# Altium footprint library Analog Devices Footprints.PcbLib: 248 footprints (part 12 of 16)
Each footprint in its own frame and in the unit in brackets; x right, y up, seen from the top. Pads: shape width x height; smd on the part's side, far side on the other; paste and mask are expansions set on the pad; w line width, h text height; cw(c..) or ccw(c..) is an arc to the next point about the centre after c.
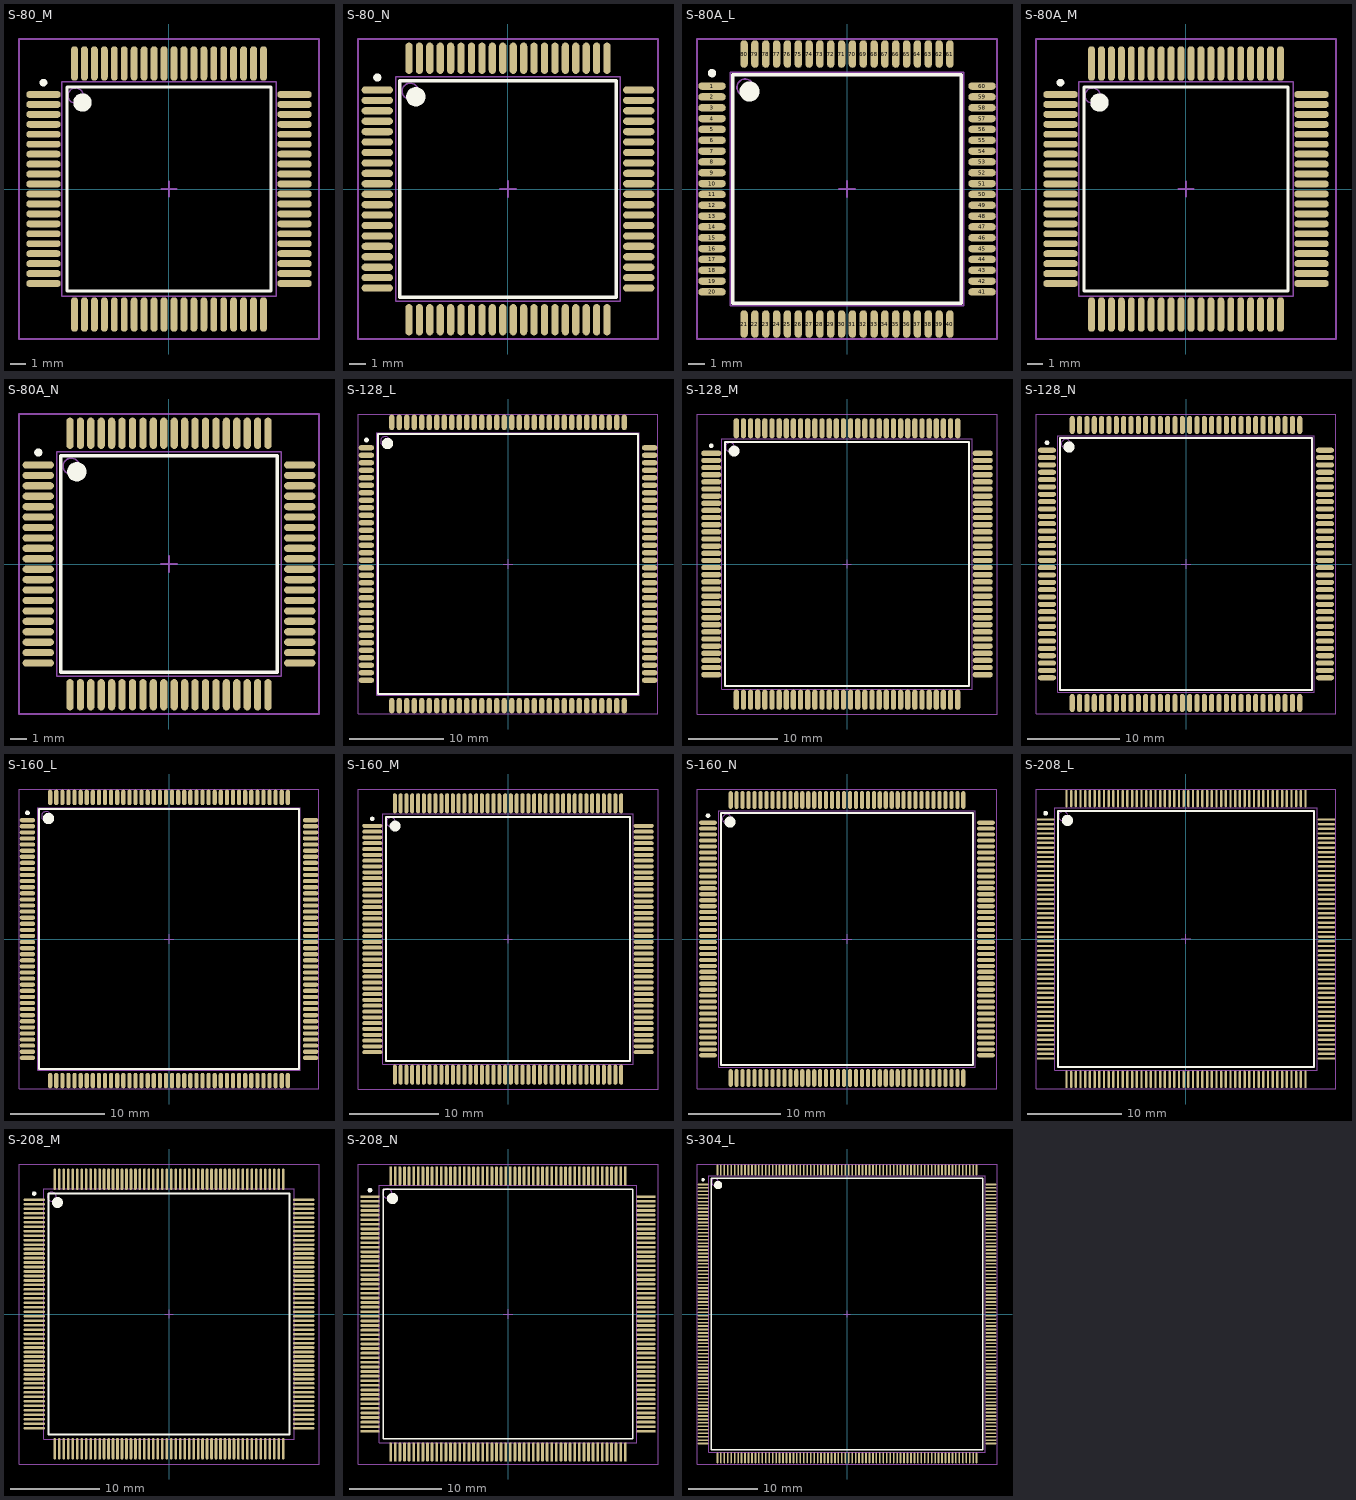
[diagram p11: the footprints below, top view; thin cyan lines are the x and y axes]

## S-80_M [mm] "80-Pin Quad Flat Pack 0.65 mm Pitch, IPC Low Density"
height 2.45
pads (80):
  oval 2.25x0.45 smd: 1(-8.2,6.175) 2(-8.2,5.525) 3(-8.2,4.875) 4(-8.2,4.225) 5(-8.2,3.575) 6(-8.2,2.925) 7(-8.2,2.275) 8(-8.2,1.625) 9(-8.2,0.975) 10(-8.2,0.325) 11(-8.2,-0.325) 12(-8.2,-0.975) 13(-8.2,-1.625) 14(-8.2,-2.275) 15(-8.2,-2.925) 16(-8.2,-3.575) 17(-8.2,-4.225) 18(-8.2,-4.875) 19(-8.2,-5.525) 20(-8.2,-6.175) 41(8.2,-6.175) 42(8.2,-5.525) 43(8.2,-4.875) 44(8.2,-4.225) 45(8.2,-3.575) 46(8.2,-2.925) 47(8.2,-2.275) 48(8.2,-1.625) 49(8.2,-0.975) 50(8.2,-0.325) 51(8.2,0.325) 52(8.2,0.975) 53(8.2,1.625) 54(8.2,2.275) 55(8.2,2.925) 56(8.2,3.575) 57(8.2,4.225) 58(8.2,4.875) 59(8.2,5.525) 60(8.2,6.175)
  oval 0.45x2.25 smd: 21(-6.175,-8.2) 22(-5.525,-8.2) 23(-4.875,-8.2) 24(-4.225,-8.2) 25(-3.575,-8.2) 26(-2.925,-8.2) 27(-2.275,-8.2) 28(-1.625,-8.2) 29(-0.975,-8.2) 30(-0.325,-8.2) 31(0.325,-8.2) 32(0.975,-8.2) 33(1.625,-8.2) 34(2.275,-8.2) 35(2.925,-8.2) 36(3.575,-8.2) 37(4.225,-8.2) 38(4.875,-8.2) 39(5.525,-8.2) 40(6.175,-8.2) 61(6.175,8.2) 62(5.525,8.2) 63(4.875,8.2) 64(4.225,8.2) 65(3.575,8.2) 66(2.925,8.2) 67(2.275,8.2) 68(1.625,8.2) 69(0.975,8.2) 70(0.325,8.2) 71(-0.325,8.2) 72(-0.975,8.2) 73(-1.625,8.2) 74(-2.275,8.2) 75(-2.925,8.2) 76(-3.575,8.2) 77(-4.225,8.2) 78(-4.875,8.2) 79(-5.525,8.2) 80(-6.175,8.2)
Top Overlay:
  circle w0.6: c-5.65,5.65 r0.3
  circle w0.25: c-8.2,6.95 r0.125
  lines w0.2: -6.65,-6.65 6.65,-6.65 6.65,6.65 -6.65,6.65 -6.65,-6.65
Mechanical 13:
  circle w0.1: c-6.1,6.1 r0.5
  lines w0.1: -7,-7 7,-7 7,7 -7,7 -7,-7
Mechanical 15:
  lines w0.1: -0.5,0 0.5,0 ; 0,-0.5 0,0.5 ; -9.8,-9.8 9.8,-9.8 9.8,9.8 -9.8,9.8 -9.8,-9.8
3D body: height 2.45, standoff 0, extent -7,-7 7,7

## S-80_N [mm] "80-Pin Quad Flat Pack 0.65 mm Pitch, IPC Medium Density"
height 2.45
pads (80):
  oval 1.95x0.45 smd: 1(-8.15,6.175) 2(-8.15,5.525) 3(-8.15,4.875) 4(-8.15,4.225) 5(-8.15,3.575) 6(-8.15,2.925) 7(-8.15,2.275) 8(-8.15,1.625) 9(-8.15,0.975) 10(-8.15,0.325) 11(-8.15,-0.325) 12(-8.15,-0.975) 13(-8.15,-1.625) 14(-8.15,-2.275) 15(-8.15,-2.925) 16(-8.15,-3.575) 17(-8.15,-4.225) 18(-8.15,-4.875) 19(-8.15,-5.525) 20(-8.15,-6.175) 41(8.15,-6.175) 42(8.15,-5.525) 43(8.15,-4.875) 44(8.15,-4.225) 45(8.15,-3.575) 46(8.15,-2.925) 47(8.15,-2.275) 48(8.15,-1.625) 49(8.15,-0.975) 50(8.15,-0.325) 51(8.15,0.325) 52(8.15,0.975) 53(8.15,1.625) 54(8.15,2.275) 55(8.15,2.925) 56(8.15,3.575) 57(8.15,4.225) 58(8.15,4.875) 59(8.15,5.525) 60(8.15,6.175)
  oval 0.45x1.95 smd: 21(-6.175,-8.15) 22(-5.525,-8.15) 23(-4.875,-8.15) 24(-4.225,-8.15) 25(-3.575,-8.15) 26(-2.925,-8.15) 27(-2.275,-8.15) 28(-1.625,-8.15) 29(-0.975,-8.15) 30(-0.325,-8.15) 31(0.325,-8.15) 32(0.975,-8.15) 33(1.625,-8.15) 34(2.275,-8.15) 35(2.925,-8.15) 36(3.575,-8.15) 37(4.225,-8.15) 38(4.875,-8.15) 39(5.525,-8.15) 40(6.175,-8.15) 61(6.175,8.15) 62(5.525,8.15) 63(4.875,8.15) 64(4.225,8.15) 65(3.575,8.15) 66(2.925,8.15) 67(2.275,8.15) 68(1.625,8.15) 69(0.975,8.15) 70(0.325,8.15) 71(-0.325,8.15) 72(-0.975,8.15) 73(-1.625,8.15) 74(-2.275,8.15) 75(-2.925,8.15) 76(-3.575,8.15) 77(-4.225,8.15) 78(-4.875,8.15) 79(-5.525,8.15) 80(-6.175,8.15)
Top Overlay:
  circle w0.6: c-5.75,5.75 r0.3
  circle w0.25: c-8.15,6.95 r0.125
  lines w0.2: -6.75,-6.75 6.75,-6.75 6.75,6.75 -6.75,6.75 -6.75,-6.75
Mechanical 13:
  circle w0.1: c-6.1,6.1 r0.5
  lines w0.1: -7,-7 7,-7 7,7 -7,7 -7,-7
Mechanical 15:
  lines w0.1: -0.5,0 0.5,0 ; 0,-0.5 0,0.5 ; -9.35,-9.35 9.35,-9.35 9.35,9.35 -9.35,9.35 -9.35,-9.35
3D body: height 2.45, standoff 0, extent -7,-7 7,7

## S-80A_L [mm] "80-Pin Quad Flat Pack 0.65 mm Pitch, IPC High Density"
height 3.4
pads (80):
  oval 1.65x0.45 smd: 1(-8.1,6.175) 2(-8.1,5.525) 3(-8.1,4.875) 4(-8.1,4.225) 5(-8.1,3.575) 6(-8.1,2.925) 7(-8.1,2.275) 8(-8.1,1.625) 9(-8.1,0.975) 10(-8.1,0.325) 11(-8.1,-0.325) 12(-8.1,-0.975) 13(-8.1,-1.625) 14(-8.1,-2.275) 15(-8.1,-2.925) 16(-8.1,-3.575) 17(-8.1,-4.225) 18(-8.1,-4.875) 19(-8.1,-5.525) 20(-8.1,-6.175) 41(8.1,-6.175) 42(8.1,-5.525) 43(8.1,-4.875) 44(8.1,-4.225) 45(8.1,-3.575) 46(8.1,-2.925) 47(8.1,-2.275) 48(8.1,-1.625) 49(8.1,-0.975) 50(8.1,-0.325) 51(8.1,0.325) 52(8.1,0.975) 53(8.1,1.625) 54(8.1,2.275) 55(8.1,2.925) 56(8.1,3.575) 57(8.1,4.225) 58(8.1,4.875) 59(8.1,5.525) 60(8.1,6.175)
  oval 0.45x1.65 smd: 21(-6.175,-8.1) 22(-5.525,-8.1) 23(-4.875,-8.1) 24(-4.225,-8.1) 25(-3.575,-8.1) 26(-2.925,-8.1) 27(-2.275,-8.1) 28(-1.625,-8.1) 29(-0.975,-8.1) 30(-0.325,-8.1) 31(0.325,-8.1) 32(0.975,-8.1) 33(1.625,-8.1) 34(2.275,-8.1) 35(2.925,-8.1) 36(3.575,-8.1) 37(4.225,-8.1) 38(4.875,-8.1) 39(5.525,-8.1) 40(6.175,-8.1) 61(6.175,8.1) 62(5.525,8.1) 63(4.875,8.1) 64(4.225,8.1) 65(3.575,8.1) 66(2.925,8.1) 67(2.275,8.1) 68(1.625,8.1) 69(0.975,8.1) 70(0.325,8.1) 71(-0.325,8.1) 72(-0.975,8.1) 73(-1.625,8.1) 74(-2.275,8.1) 75(-2.925,8.1) 76(-3.575,8.1) 77(-4.225,8.1) 78(-4.875,8.1) 79(-5.525,8.1) 80(-6.175,8.1)
Top Overlay:
  circle w0.6: c-5.85,5.85 r0.3
  circle w0.25: c-8.1,6.95 r0.125
  lines w0.2: -6.85,-6.85 6.85,-6.85 6.85,6.85 -6.85,6.85 -6.85,-6.85
Mechanical 13:
  circle w0.1: c-6.1,6.1 r0.5
  lines w0.1: -7,-7 7,-7 7,7 -7,7 -7,-7
Mechanical 15:
  lines w0.1: -0.5,0 0.5,0 ; 0,-0.5 0,0.5 ; -9,-9 9,-9 9,9 -9,9 -9,-9
3D body: height 3.4, standoff 0, extent -7,-7 7,7

## S-80A_M [mm] "80-Pin Quad Flat Pack 0.65 mm Pitch, IPC Low Density"
height 3.4
pads (80):
  oval 2.25x0.45 smd: 1(-8.2,6.175) 2(-8.2,5.525) 3(-8.2,4.875) 4(-8.2,4.225) 5(-8.2,3.575) 6(-8.2,2.925) 7(-8.2,2.275) 8(-8.2,1.625) 9(-8.2,0.975) 10(-8.2,0.325) 11(-8.2,-0.325) 12(-8.2,-0.975) 13(-8.2,-1.625) 14(-8.2,-2.275) 15(-8.2,-2.925) 16(-8.2,-3.575) 17(-8.2,-4.225) 18(-8.2,-4.875) 19(-8.2,-5.525) 20(-8.2,-6.175) 41(8.2,-6.175) 42(8.2,-5.525) 43(8.2,-4.875) 44(8.2,-4.225) 45(8.2,-3.575) 46(8.2,-2.925) 47(8.2,-2.275) 48(8.2,-1.625) 49(8.2,-0.975) 50(8.2,-0.325) 51(8.2,0.325) 52(8.2,0.975) 53(8.2,1.625) 54(8.2,2.275) 55(8.2,2.925) 56(8.2,3.575) 57(8.2,4.225) 58(8.2,4.875) 59(8.2,5.525) 60(8.2,6.175)
  oval 0.45x2.25 smd: 21(-6.175,-8.2) 22(-5.525,-8.2) 23(-4.875,-8.2) 24(-4.225,-8.2) 25(-3.575,-8.2) 26(-2.925,-8.2) 27(-2.275,-8.2) 28(-1.625,-8.2) 29(-0.975,-8.2) 30(-0.325,-8.2) 31(0.325,-8.2) 32(0.975,-8.2) 33(1.625,-8.2) 34(2.275,-8.2) 35(2.925,-8.2) 36(3.575,-8.2) 37(4.225,-8.2) 38(4.875,-8.2) 39(5.525,-8.2) 40(6.175,-8.2) 61(6.175,8.2) 62(5.525,8.2) 63(4.875,8.2) 64(4.225,8.2) 65(3.575,8.2) 66(2.925,8.2) 67(2.275,8.2) 68(1.625,8.2) 69(0.975,8.2) 70(0.325,8.2) 71(-0.325,8.2) 72(-0.975,8.2) 73(-1.625,8.2) 74(-2.275,8.2) 75(-2.925,8.2) 76(-3.575,8.2) 77(-4.225,8.2) 78(-4.875,8.2) 79(-5.525,8.2) 80(-6.175,8.2)
Top Overlay:
  circle w0.6: c-5.65,5.65 r0.3
  circle w0.25: c-8.2,6.95 r0.125
  lines w0.2: -6.65,-6.65 6.65,-6.65 6.65,6.65 -6.65,6.65 -6.65,-6.65
Mechanical 13:
  circle w0.1: c-6.1,6.1 r0.5
  lines w0.1: -7,-7 7,-7 7,7 -7,7 -7,-7
Mechanical 15:
  lines w0.1: -0.5,0 0.5,0 ; 0,-0.5 0,0.5 ; -9.8,-9.8 9.8,-9.8 9.8,9.8 -9.8,9.8 -9.8,-9.8
3D body: height 3.4, standoff 0, extent -7,-7 7,7

## S-80A_N [mm] "80-Pin Quad Flat Pack 0.65 mm Pitch, IPC Medium Density"
height 3.4
pads (80):
  oval 1.95x0.45 smd: 1(-8.15,6.175) 2(-8.15,5.525) 3(-8.15,4.875) 4(-8.15,4.225) 5(-8.15,3.575) 6(-8.15,2.925) 7(-8.15,2.275) 8(-8.15,1.625) 9(-8.15,0.975) 10(-8.15,0.325) 11(-8.15,-0.325) 12(-8.15,-0.975) 13(-8.15,-1.625) 14(-8.15,-2.275) 15(-8.15,-2.925) 16(-8.15,-3.575) 17(-8.15,-4.225) 18(-8.15,-4.875) 19(-8.15,-5.525) 20(-8.15,-6.175) 41(8.15,-6.175) 42(8.15,-5.525) 43(8.15,-4.875) 44(8.15,-4.225) 45(8.15,-3.575) 46(8.15,-2.925) 47(8.15,-2.275) 48(8.15,-1.625) 49(8.15,-0.975) 50(8.15,-0.325) 51(8.15,0.325) 52(8.15,0.975) 53(8.15,1.625) 54(8.15,2.275) 55(8.15,2.925) 56(8.15,3.575) 57(8.15,4.225) 58(8.15,4.875) 59(8.15,5.525) 60(8.15,6.175)
  oval 0.45x1.95 smd: 21(-6.175,-8.15) 22(-5.525,-8.15) 23(-4.875,-8.15) 24(-4.225,-8.15) 25(-3.575,-8.15) 26(-2.925,-8.15) 27(-2.275,-8.15) 28(-1.625,-8.15) 29(-0.975,-8.15) 30(-0.325,-8.15) 31(0.325,-8.15) 32(0.975,-8.15) 33(1.625,-8.15) 34(2.275,-8.15) 35(2.925,-8.15) 36(3.575,-8.15) 37(4.225,-8.15) 38(4.875,-8.15) 39(5.525,-8.15) 40(6.175,-8.15) 61(6.175,8.15) 62(5.525,8.15) 63(4.875,8.15) 64(4.225,8.15) 65(3.575,8.15) 66(2.925,8.15) 67(2.275,8.15) 68(1.625,8.15) 69(0.975,8.15) 70(0.325,8.15) 71(-0.325,8.15) 72(-0.975,8.15) 73(-1.625,8.15) 74(-2.275,8.15) 75(-2.925,8.15) 76(-3.575,8.15) 77(-4.225,8.15) 78(-4.875,8.15) 79(-5.525,8.15) 80(-6.175,8.15)
Top Overlay:
  circle w0.6: c-5.75,5.75 r0.3
  circle w0.25: c-8.15,6.95 r0.125
  lines w0.2: -6.75,-6.75 6.75,-6.75 6.75,6.75 -6.75,6.75 -6.75,-6.75
Mechanical 13:
  circle w0.1: c-6.1,6.1 r0.5
  lines w0.1: -7,-7 7,-7 7,7 -7,7 -7,-7
Mechanical 15:
  lines w0.1: -0.5,0 0.5,0 ; 0,-0.5 0,0.5 ; -9.35,-9.35 9.35,-9.35 9.35,9.35 -9.35,9.35 -9.35,-9.35
3D body: height 3.4, standoff 0, extent -7,-7 7,7

## S-128_L [mm] "128-Pin Quad Flat Pack 0.8 mm Pitch, IPC High Density"
height 4.07
pads (128):
  oval 1.65x0.55 smd: 1(-15.1,12.4) 2(-15.1,11.6) 3(-15.1,10.8) 4(-15.1,10) 5(-15.1,9.2) 6(-15.1,8.4) 7(-15.1,7.6) 8(-15.1,6.8) 9(-15.1,6) 10(-15.1,5.2) 11(-15.1,4.4) 12(-15.1,3.6) 13(-15.1,2.8) 14(-15.1,2) 15(-15.1,1.2) 16(-15.1,0.4) 17(-15.1,-0.4) 18(-15.1,-1.2) 19(-15.1,-2) 20(-15.1,-2.8) 21(-15.1,-3.6) 22(-15.1,-4.4) 23(-15.1,-5.2) 24(-15.1,-6) 25(-15.1,-6.8) 26(-15.1,-7.6) 27(-15.1,-8.4) 28(-15.1,-9.2) 29(-15.1,-10) 30(-15.1,-10.8) 31(-15.1,-11.6) 32(-15.1,-12.4) 65(15.1,-12.4) 66(15.1,-11.6) 67(15.1,-10.8) 68(15.1,-10) 69(15.1,-9.2) 70(15.1,-8.4) 71(15.1,-7.6) 72(15.1,-6.8) 73(15.1,-6) 74(15.1,-5.2) 75(15.1,-4.4) 76(15.1,-3.6) 77(15.1,-2.8) 78(15.1,-2) 79(15.1,-1.2) 80(15.1,-0.4) 81(15.1,0.4) 82(15.1,1.2) 83(15.1,2) 84(15.1,2.8) 85(15.1,3.6) 86(15.1,4.4) 87(15.1,5.2) 88(15.1,6) 89(15.1,6.8) 90(15.1,7.6) 91(15.1,8.4) 92(15.1,9.2) 93(15.1,10) 94(15.1,10.8) 95(15.1,11.6) 96(15.1,12.4)
  oval 0.55x1.65 smd: 33(-12.4,-15.1) 34(-11.6,-15.1) 35(-10.8,-15.1) 36(-10,-15.1) 37(-9.2,-15.1) 38(-8.4,-15.1) 39(-7.6,-15.1) 40(-6.8,-15.1) 41(-6,-15.1) 42(-5.2,-15.1) 43(-4.4,-15.1) 44(-3.6,-15.1) 45(-2.8,-15.1) 46(-2,-15.1) 47(-1.2,-15.1) 48(-0.4,-15.1) 49(0.4,-15.1) 50(1.2,-15.1) 51(2,-15.1) 52(2.8,-15.1) 53(3.6,-15.1) 54(4.4,-15.1) 55(5.2,-15.1) 56(6,-15.1) 57(6.8,-15.1) 58(7.6,-15.1) 59(8.4,-15.1) 60(9.2,-15.1) 61(10,-15.1) 62(10.8,-15.1) 63(11.6,-15.1) 64(12.4,-15.1) 97(12.4,15.1) 98(11.6,15.1) 99(10.8,15.1) 100(10,15.1) 101(9.2,15.1) 102(8.4,15.1) 103(7.6,15.1) 104(6.8,15.1) 105(6,15.1) 106(5.2,15.1) 107(4.4,15.1) 108(3.6,15.1) 109(2.8,15.1) 110(2,15.1) 111(1.2,15.1) 112(0.4,15.1) 113(-0.4,15.1) 114(-1.2,15.1) 115(-2,15.1) 116(-2.8,15.1) 117(-3.6,15.1) 118(-4.4,15.1) 119(-5.2,15.1) 120(-6,15.1) 121(-6.8,15.1) 122(-7.6,15.1) 123(-8.4,15.1) 124(-9.2,15.1) 125(-10,15.1) 126(-10.8,15.1) 127(-11.6,15.1) 128(-12.4,15.1)
Top Overlay:
  circle w0.6: c-12.85,12.85 r0.3
  circle w0.25: c-15.1,13.225 r0.125
  lines w0.2: -13.85,-13.85 13.85,-13.85 13.85,13.85 -13.85,13.85 -13.85,-13.85
Mechanical 13:
  circle w0.1: c-13.1,13.1 r0.5
  lines w0.1: -14,-14 14,-14 14,14 -14,14 -14,-14
Mechanical 15:
  lines w0.1: -0.5,0 0.5,0 ; 0,-0.5 0,0.5 ; -16,-16 16,-16 16,16 -16,16 -16,-16
3D body: height 4.07, standoff 0, extent -14,-14 14,14

## S-128_M [mm] "128-Pin Quad Flat Pack 0.8 mm Pitch, IPC Low Density"
height 4.07
pads (128):
  oval 2.25x0.6 smd: 1(-15.2,12.4) 2(-15.2,11.6) 3(-15.2,10.8) 4(-15.2,10) 5(-15.2,9.2) 6(-15.2,8.4) 7(-15.2,7.6) 8(-15.2,6.8) 9(-15.2,6) 10(-15.2,5.2) 11(-15.2,4.4) 12(-15.2,3.6) 13(-15.2,2.8) 14(-15.2,2) 15(-15.2,1.2) 16(-15.2,0.4) 17(-15.2,-0.4) 18(-15.2,-1.2) 19(-15.2,-2) 20(-15.2,-2.8) 21(-15.2,-3.6) 22(-15.2,-4.4) 23(-15.2,-5.2) 24(-15.2,-6) 25(-15.2,-6.8) 26(-15.2,-7.6) 27(-15.2,-8.4) 28(-15.2,-9.2) 29(-15.2,-10) 30(-15.2,-10.8) 31(-15.2,-11.6) 32(-15.2,-12.4) 65(15.2,-12.4) 66(15.2,-11.6) 67(15.2,-10.8) 68(15.2,-10) 69(15.2,-9.2) 70(15.2,-8.4) 71(15.2,-7.6) 72(15.2,-6.8) 73(15.2,-6) 74(15.2,-5.2) 75(15.2,-4.4) 76(15.2,-3.6) 77(15.2,-2.8) 78(15.2,-2) 79(15.2,-1.2) 80(15.2,-0.4) 81(15.2,0.4) 82(15.2,1.2) 83(15.2,2) 84(15.2,2.8) 85(15.2,3.6) 86(15.2,4.4) 87(15.2,5.2) 88(15.2,6) 89(15.2,6.8) 90(15.2,7.6) 91(15.2,8.4) 92(15.2,9.2) 93(15.2,10) 94(15.2,10.8) 95(15.2,11.6) 96(15.2,12.4)
  oval 0.6x2.25 smd: 33(-12.4,-15.2) 34(-11.6,-15.2) 35(-10.8,-15.2) 36(-10,-15.2) 37(-9.2,-15.2) 38(-8.4,-15.2) 39(-7.6,-15.2) 40(-6.8,-15.2) 41(-6,-15.2) 42(-5.2,-15.2) 43(-4.4,-15.2) 44(-3.6,-15.2) 45(-2.8,-15.2) 46(-2,-15.2) 47(-1.2,-15.2) 48(-0.4,-15.2) 49(0.4,-15.2) 50(1.2,-15.2) 51(2,-15.2) 52(2.8,-15.2) 53(3.6,-15.2) 54(4.4,-15.2) 55(5.2,-15.2) 56(6,-15.2) 57(6.8,-15.2) 58(7.6,-15.2) 59(8.4,-15.2) 60(9.2,-15.2) 61(10,-15.2) 62(10.8,-15.2) 63(11.6,-15.2) 64(12.4,-15.2) 97(12.4,15.2) 98(11.6,15.2) 99(10.8,15.2) 100(10,15.2) 101(9.2,15.2) 102(8.4,15.2) 103(7.6,15.2) 104(6.8,15.2) 105(6,15.2) 106(5.2,15.2) 107(4.4,15.2) 108(3.6,15.2) 109(2.8,15.2) 110(2,15.2) 111(1.2,15.2) 112(0.4,15.2) 113(-0.4,15.2) 114(-1.2,15.2) 115(-2,15.2) 116(-2.8,15.2) 117(-3.6,15.2) 118(-4.4,15.2) 119(-5.2,15.2) 120(-6,15.2) 121(-6.8,15.2) 122(-7.6,15.2) 123(-8.4,15.2) 124(-9.2,15.2) 125(-10,15.2) 126(-10.8,15.2) 127(-11.6,15.2) 128(-12.4,15.2)
Top Overlay:
  circle w0.6: c-12.65,12.65 r0.3
  circle w0.25: c-15.2,13.25 r0.125
  lines w0.2: -13.65,-13.65 13.65,-13.65 13.65,13.65 -13.65,13.65 -13.65,-13.65
Mechanical 13:
  circle w0.1: c-13.1,13.1 r0.5
  lines w0.1: -14,-14 14,-14 14,14 -14,14 -14,-14
Mechanical 15:
  lines w0.1: -0.5,0 0.5,0 ; 0,-0.5 0,0.5 ; -16.8,-16.8 16.8,-16.8 16.8,16.8 -16.8,16.8 -16.8,-16.8
3D body: height 4.07, standoff 0, extent -14,-14 14,14

## S-128_N [mm] "128-Pin Quad Flat Pack 0.8 mm Pitch, IPC Medium Density"
height 4.07
pads (128):
  oval 1.95x0.55 smd: 1(-15.15,12.4) 2(-15.15,11.6) 3(-15.15,10.8) 4(-15.15,10) 5(-15.15,9.2) 6(-15.15,8.4) 7(-15.15,7.6) 8(-15.15,6.8) 9(-15.15,6) 10(-15.15,5.2) 11(-15.15,4.4) 12(-15.15,3.6) 13(-15.15,2.8) 14(-15.15,2) 15(-15.15,1.2) 16(-15.15,0.4) 17(-15.15,-0.4) 18(-15.15,-1.2) 19(-15.15,-2) 20(-15.15,-2.8) 21(-15.15,-3.6) 22(-15.15,-4.4) 23(-15.15,-5.2) 24(-15.15,-6) 25(-15.15,-6.8) 26(-15.15,-7.6) 27(-15.15,-8.4) 28(-15.15,-9.2) 29(-15.15,-10) 30(-15.15,-10.8) 31(-15.15,-11.6) 32(-15.15,-12.4) 65(15.15,-12.4) 66(15.15,-11.6) 67(15.15,-10.8) 68(15.15,-10) 69(15.15,-9.2) 70(15.15,-8.4) 71(15.15,-7.6) 72(15.15,-6.8) 73(15.15,-6) 74(15.15,-5.2) 75(15.15,-4.4) 76(15.15,-3.6) 77(15.15,-2.8) 78(15.15,-2) 79(15.15,-1.2) 80(15.15,-0.4) 81(15.15,0.4) 82(15.15,1.2) 83(15.15,2) 84(15.15,2.8) 85(15.15,3.6) 86(15.15,4.4) 87(15.15,5.2) 88(15.15,6) 89(15.15,6.8) 90(15.15,7.6) 91(15.15,8.4) 92(15.15,9.2) 93(15.15,10) 94(15.15,10.8) 95(15.15,11.6) 96(15.15,12.4)
  oval 0.55x1.95 smd: 33(-12.4,-15.15) 34(-11.6,-15.15) 35(-10.8,-15.15) 36(-10,-15.15) 37(-9.2,-15.15) 38(-8.4,-15.15) 39(-7.6,-15.15) 40(-6.8,-15.15) 41(-6,-15.15) 42(-5.2,-15.15) 43(-4.4,-15.15) 44(-3.6,-15.15) 45(-2.8,-15.15) 46(-2,-15.15) 47(-1.2,-15.15) 48(-0.4,-15.15) 49(0.4,-15.15) 50(1.2,-15.15) 51(2,-15.15) 52(2.8,-15.15) 53(3.6,-15.15) 54(4.4,-15.15) 55(5.2,-15.15) 56(6,-15.15) 57(6.8,-15.15) 58(7.6,-15.15) 59(8.4,-15.15) 60(9.2,-15.15) 61(10,-15.15) 62(10.8,-15.15) 63(11.6,-15.15) 64(12.4,-15.15) 97(12.4,15.15) 98(11.6,15.15) 99(10.8,15.15) 100(10,15.15) 101(9.2,15.15) 102(8.4,15.15) 103(7.6,15.15) 104(6.8,15.15) 105(6,15.15) 106(5.2,15.15) 107(4.4,15.15) 108(3.6,15.15) 109(2.8,15.15) 110(2,15.15) 111(1.2,15.15) 112(0.4,15.15) 113(-0.4,15.15) 114(-1.2,15.15) 115(-2,15.15) 116(-2.8,15.15) 117(-3.6,15.15) 118(-4.4,15.15) 119(-5.2,15.15) 120(-6,15.15) 121(-6.8,15.15) 122(-7.6,15.15) 123(-8.4,15.15) 124(-9.2,15.15) 125(-10,15.15) 126(-10.8,15.15) 127(-11.6,15.15) 128(-12.4,15.15)
Top Overlay:
  circle w0.6: c-12.75,12.75 r0.3
  circle w0.25: c-15.15,13.225 r0.125
  lines w0.2: -13.75,-13.75 13.75,-13.75 13.75,13.75 -13.75,13.75 -13.75,-13.75
Mechanical 13:
  circle w0.1: c-13.1,13.1 r0.5
  lines w0.1: -14,-14 14,-14 14,14 -14,14 -14,-14
Mechanical 15:
  lines w0.1: -0.5,0 0.5,0 ; 0,-0.5 0,0.5 ; -16.35,-16.35 16.35,-16.35 16.35,16.35 -16.35,16.35 -16.35,-16.35
3D body: height 4.07, standoff 0, extent -14,-14 14,14

## S-160_L [mm] "160-Pin Quad Flat Pack 0.65 mm Pitch, IPC High Density"
height 4.07
pads (160):
  oval 1.65x0.45 smd: 1(-15.1,12.675) 2(-15.1,12.025) 3(-15.1,11.375) 4(-15.1,10.725) 5(-15.1,10.075) 6(-15.1,9.425) 7(-15.1,8.775) 8(-15.1,8.125) 9(-15.1,7.475) 10(-15.1,6.825) 11(-15.1,6.175) 12(-15.1,5.525) 13(-15.1,4.875) 14(-15.1,4.225) 15(-15.1,3.575) 16(-15.1,2.925) 17(-15.1,2.275) 18(-15.1,1.625) 19(-15.1,0.975) 20(-15.1,0.325) 21(-15.1,-0.325) 22(-15.1,-0.975) 23(-15.1,-1.625) 24(-15.1,-2.275) 25(-15.1,-2.925) 26(-15.1,-3.575) 27(-15.1,-4.225) 28(-15.1,-4.875) 29(-15.1,-5.525) 30(-15.1,-6.175) 31(-15.1,-6.825) 32(-15.1,-7.475) 33(-15.1,-8.125) 34(-15.1,-8.775) 35(-15.1,-9.425) 36(-15.1,-10.075) 37(-15.1,-10.725) 38(-15.1,-11.375) 39(-15.1,-12.025) 40(-15.1,-12.675) 81(15.1,-12.675) 82(15.1,-12.025) 83(15.1,-11.375) 84(15.1,-10.725) 85(15.1,-10.075) 86(15.1,-9.425) 87(15.1,-8.775) 88(15.1,-8.125) 89(15.1,-7.475) 90(15.1,-6.825) 91(15.1,-6.175) 92(15.1,-5.525) 93(15.1,-4.875) 94(15.1,-4.225) 95(15.1,-3.575) 96(15.1,-2.925) 97(15.1,-2.275) 98(15.1,-1.625) 99(15.1,-0.975) 100(15.1,-0.325) 101(15.1,0.325) 102(15.1,0.975) 103(15.1,1.625) 104(15.1,2.275) 105(15.1,2.925) 106(15.1,3.575) 107(15.1,4.225) 108(15.1,4.875) 109(15.1,5.525) 110(15.1,6.175) 111(15.1,6.825) 112(15.1,7.475) 113(15.1,8.125) 114(15.1,8.775) 115(15.1,9.425) 116(15.1,10.075) 117(15.1,10.725) 118(15.1,11.375) 119(15.1,12.025) 120(15.1,12.675)
  oval 0.45x1.65 smd: 41(-12.675,-15.1) 42(-12.025,-15.1) 43(-11.375,-15.1) 44(-10.725,-15.1) 45(-10.075,-15.1) 46(-9.425,-15.1) 47(-8.775,-15.1) 48(-8.125,-15.1) 49(-7.475,-15.1) 50(-6.825,-15.1) 51(-6.175,-15.1) 52(-5.525,-15.1) 53(-4.875,-15.1) 54(-4.225,-15.1) 55(-3.575,-15.1) 56(-2.925,-15.1) 57(-2.275,-15.1) 58(-1.625,-15.1) 59(-0.975,-15.1) 60(-0.325,-15.1) 61(0.325,-15.1) 62(0.975,-15.1) 63(1.625,-15.1) 64(2.275,-15.1) 65(2.925,-15.1) 66(3.575,-15.1) 67(4.225,-15.1) 68(4.875,-15.1) 69(5.525,-15.1) 70(6.175,-15.1) 71(6.825,-15.1) 72(7.475,-15.1) 73(8.125,-15.1) 74(8.775,-15.1) 75(9.425,-15.1) 76(10.075,-15.1) 77(10.725,-15.1) 78(11.375,-15.1) 79(12.025,-15.1) 80(12.675,-15.1) 121(12.675,15.1) 122(12.025,15.1) 123(11.375,15.1) 124(10.725,15.1) 125(10.075,15.1) 126(9.425,15.1) 127(8.775,15.1) 128(8.125,15.1) 129(7.475,15.1) 130(6.825,15.1) 131(6.175,15.1) 132(5.525,15.1) 133(4.875,15.1) 134(4.225,15.1) 135(3.575,15.1) 136(2.925,15.1) 137(2.275,15.1) 138(1.625,15.1) 139(0.975,15.1) 140(0.325,15.1) 141(-0.325,15.1) 142(-0.975,15.1) 143(-1.625,15.1) 144(-2.275,15.1) 145(-2.925,15.1) 146(-3.575,15.1) 147(-4.225,15.1) 148(-4.875,15.1) 149(-5.525,15.1) 150(-6.175,15.1) 151(-6.825,15.1) 152(-7.475,15.1) 153(-8.125,15.1) 154(-8.775,15.1) 155(-9.425,15.1) 156(-10.075,15.1) 157(-10.725,15.1) 158(-11.375,15.1) 159(-12.025,15.1) 160(-12.675,15.1)
Top Overlay:
  circle w0.6: c-12.85,12.85 r0.3
  circle w0.25: c-15.1,13.45 r0.125
  lines w0.2: -13.85,-13.85 13.85,-13.85 13.85,13.85 -13.85,13.85 -13.85,-13.85
Mechanical 13:
  circle w0.1: c-13.1,13.1 r0.5
  lines w0.1: -14,-14 14,-14 14,14 -14,14 -14,-14
Mechanical 15:
  lines w0.1: -0.5,0 0.5,0 ; 0,-0.5 0,0.5 ; -16,-16 16,-16 16,16 -16,16 -16,-16
3D body: height 4.07, standoff 0, extent -14,-14 14,14

## S-160_M [mm] "160-Pin Quad Flat Pack 0.65 mm Pitch, IPC Low Density"
height 4.07
pads (160):
  oval 2.25x0.45 smd: 1(-15.2,12.675) 2(-15.2,12.025) 3(-15.2,11.375) 4(-15.2,10.725) 5(-15.2,10.075) 6(-15.2,9.425) 7(-15.2,8.775) 8(-15.2,8.125) 9(-15.2,7.475) 10(-15.2,6.825) 11(-15.2,6.175) 12(-15.2,5.525) 13(-15.2,4.875) 14(-15.2,4.225) 15(-15.2,3.575) 16(-15.2,2.925) 17(-15.2,2.275) 18(-15.2,1.625) 19(-15.2,0.975) 20(-15.2,0.325) 21(-15.2,-0.325) 22(-15.2,-0.975) 23(-15.2,-1.625) 24(-15.2,-2.275) 25(-15.2,-2.925) 26(-15.2,-3.575) 27(-15.2,-4.225) 28(-15.2,-4.875) 29(-15.2,-5.525) 30(-15.2,-6.175) 31(-15.2,-6.825) 32(-15.2,-7.475) 33(-15.2,-8.125) 34(-15.2,-8.775) 35(-15.2,-9.425) 36(-15.2,-10.075) 37(-15.2,-10.725) 38(-15.2,-11.375) 39(-15.2,-12.025) 40(-15.2,-12.675) 81(15.2,-12.675) 82(15.2,-12.025) 83(15.2,-11.375) 84(15.2,-10.725) 85(15.2,-10.075) 86(15.2,-9.425) 87(15.2,-8.775) 88(15.2,-8.125) 89(15.2,-7.475) 90(15.2,-6.825) 91(15.2,-6.175) 92(15.2,-5.525) 93(15.2,-4.875) 94(15.2,-4.225) 95(15.2,-3.575) 96(15.2,-2.925) 97(15.2,-2.275) 98(15.2,-1.625) 99(15.2,-0.975) 100(15.2,-0.325) 101(15.2,0.325) 102(15.2,0.975) 103(15.2,1.625) 104(15.2,2.275) 105(15.2,2.925) 106(15.2,3.575) 107(15.2,4.225) 108(15.2,4.875) 109(15.2,5.525) 110(15.2,6.175) 111(15.2,6.825) 112(15.2,7.475) 113(15.2,8.125) 114(15.2,8.775) 115(15.2,9.425) 116(15.2,10.075) 117(15.2,10.725) 118(15.2,11.375) 119(15.2,12.025) 120(15.2,12.675)
  oval 0.45x2.25 smd: 41(-12.675,-15.2) 42(-12.025,-15.2) 43(-11.375,-15.2) 44(-10.725,-15.2) 45(-10.075,-15.2) 46(-9.425,-15.2) 47(-8.775,-15.2) 48(-8.125,-15.2) 49(-7.475,-15.2) 50(-6.825,-15.2) 51(-6.175,-15.2) 52(-5.525,-15.2) 53(-4.875,-15.2) 54(-4.225,-15.2) 55(-3.575,-15.2) 56(-2.925,-15.2) 57(-2.275,-15.2) 58(-1.625,-15.2) 59(-0.975,-15.2) 60(-0.325,-15.2) 61(0.325,-15.2) 62(0.975,-15.2) 63(1.625,-15.2) 64(2.275,-15.2) 65(2.925,-15.2) 66(3.575,-15.2) 67(4.225,-15.2) 68(4.875,-15.2) 69(5.525,-15.2) 70(6.175,-15.2) 71(6.825,-15.2) 72(7.475,-15.2) 73(8.125,-15.2) 74(8.775,-15.2) 75(9.425,-15.2) 76(10.075,-15.2) 77(10.725,-15.2) 78(11.375,-15.2) 79(12.025,-15.2) 80(12.675,-15.2) 121(12.675,15.2) 122(12.025,15.2) 123(11.375,15.2) 124(10.725,15.2) 125(10.075,15.2) 126(9.425,15.2) 127(8.775,15.2) 128(8.125,15.2) 129(7.475,15.2) 130(6.825,15.2) 131(6.175,15.2) 132(5.525,15.2) 133(4.875,15.2) 134(4.225,15.2) 135(3.575,15.2) 136(2.925,15.2) 137(2.275,15.2) 138(1.625,15.2) 139(0.975,15.2) 140(0.325,15.2) 141(-0.325,15.2) 142(-0.975,15.2) 143(-1.625,15.2) 144(-2.275,15.2) 145(-2.925,15.2) 146(-3.575,15.2) 147(-4.225,15.2) 148(-4.875,15.2) 149(-5.525,15.2) 150(-6.175,15.2) 151(-6.825,15.2) 152(-7.475,15.2) 153(-8.125,15.2) 154(-8.775,15.2) 155(-9.425,15.2) 156(-10.075,15.2) 157(-10.725,15.2) 158(-11.375,15.2) 159(-12.025,15.2) 160(-12.675,15.2)
Top Overlay:
  circle w0.6: c-12.65,12.65 r0.3
  circle w0.25: c-15.2,13.45 r0.125
  lines w0.2: -13.65,-13.65 13.65,-13.65 13.65,13.65 -13.65,13.65 -13.65,-13.65
Mechanical 13:
  circle w0.1: c-13.1,13.1 r0.5
  lines w0.1: -14,-14 14,-14 14,14 -14,14 -14,-14
Mechanical 15:
  lines w0.1: -0.5,0 0.5,0 ; 0,-0.5 0,0.5 ; -16.8,-16.8 16.8,-16.8 16.8,16.8 -16.8,16.8 -16.8,-16.8
3D body: height 4.07, standoff 0, extent -14,-14 14,14

## S-160_N [mm] "160-Pin Quad Flat Pack 0.65 mm Pitch, IPC Medium Density"
height 4.07
pads (160):
  oval 1.95x0.45 smd: 1(-15.15,12.675) 2(-15.15,12.025) 3(-15.15,11.375) 4(-15.15,10.725) 5(-15.15,10.075) 6(-15.15,9.425) 7(-15.15,8.775) 8(-15.15,8.125) 9(-15.15,7.475) 10(-15.15,6.825) 11(-15.15,6.175) 12(-15.15,5.525) 13(-15.15,4.875) 14(-15.15,4.225) 15(-15.15,3.575) 16(-15.15,2.925) 17(-15.15,2.275) 18(-15.15,1.625) 19(-15.15,0.975) 20(-15.15,0.325) 21(-15.15,-0.325) 22(-15.15,-0.975) 23(-15.15,-1.625) 24(-15.15,-2.275) 25(-15.15,-2.925) 26(-15.15,-3.575) 27(-15.15,-4.225) 28(-15.15,-4.875) 29(-15.15,-5.525) 30(-15.15,-6.175) 31(-15.15,-6.825) 32(-15.15,-7.475) 33(-15.15,-8.125) 34(-15.15,-8.775) 35(-15.15,-9.425) 36(-15.15,-10.075) 37(-15.15,-10.725) 38(-15.15,-11.375) 39(-15.15,-12.025) 40(-15.15,-12.675) 81(15.15,-12.675) 82(15.15,-12.025) 83(15.15,-11.375) 84(15.15,-10.725) 85(15.15,-10.075) 86(15.15,-9.425) 87(15.15,-8.775) 88(15.15,-8.125) 89(15.15,-7.475) 90(15.15,-6.825) 91(15.15,-6.175) 92(15.15,-5.525) 93(15.15,-4.875) 94(15.15,-4.225) 95(15.15,-3.575) 96(15.15,-2.925) 97(15.15,-2.275) 98(15.15,-1.625) 99(15.15,-0.975) 100(15.15,-0.325) 101(15.15,0.325) 102(15.15,0.975) 103(15.15,1.625) 104(15.15,2.275) 105(15.15,2.925) 106(15.15,3.575) 107(15.15,4.225) 108(15.15,4.875) 109(15.15,5.525) 110(15.15,6.175) 111(15.15,6.825) 112(15.15,7.475) 113(15.15,8.125) 114(15.15,8.775) 115(15.15,9.425) 116(15.15,10.075) 117(15.15,10.725) 118(15.15,11.375) 119(15.15,12.025) 120(15.15,12.675)
  oval 0.45x1.95 smd: 41(-12.675,-15.15) 42(-12.025,-15.15) 43(-11.375,-15.15) 44(-10.725,-15.15) 45(-10.075,-15.15) 46(-9.425,-15.15) 47(-8.775,-15.15) 48(-8.125,-15.15) 49(-7.475,-15.15) 50(-6.825,-15.15) 51(-6.175,-15.15) 52(-5.525,-15.15) 53(-4.875,-15.15) 54(-4.225,-15.15) 55(-3.575,-15.15) 56(-2.925,-15.15) 57(-2.275,-15.15) 58(-1.625,-15.15) 59(-0.975,-15.15) 60(-0.325,-15.15) 61(0.325,-15.15) 62(0.975,-15.15) 63(1.625,-15.15) 64(2.275,-15.15) 65(2.925,-15.15) 66(3.575,-15.15) 67(4.225,-15.15) 68(4.875,-15.15) 69(5.525,-15.15) 70(6.175,-15.15) 71(6.825,-15.15) 72(7.475,-15.15) 73(8.125,-15.15) 74(8.775,-15.15) 75(9.425,-15.15) 76(10.075,-15.15) 77(10.725,-15.15) 78(11.375,-15.15) 79(12.025,-15.15) 80(12.675,-15.15) 121(12.675,15.15) 122(12.025,15.15) 123(11.375,15.15) 124(10.725,15.15) 125(10.075,15.15) 126(9.425,15.15) 127(8.775,15.15) 128(8.125,15.15) 129(7.475,15.15) 130(6.825,15.15) 131(6.175,15.15) 132(5.525,15.15) 133(4.875,15.15) 134(4.225,15.15) 135(3.575,15.15) 136(2.925,15.15) 137(2.275,15.15) 138(1.625,15.15) 139(0.975,15.15) 140(0.325,15.15) 141(-0.325,15.15) 142(-0.975,15.15) 143(-1.625,15.15) 144(-2.275,15.15) 145(-2.925,15.15) 146(-3.575,15.15) 147(-4.225,15.15) 148(-4.875,15.15) 149(-5.525,15.15) 150(-6.175,15.15) 151(-6.825,15.15) 152(-7.475,15.15) 153(-8.125,15.15) 154(-8.775,15.15) 155(-9.425,15.15) 156(-10.075,15.15) 157(-10.725,15.15) 158(-11.375,15.15) 159(-12.025,15.15) 160(-12.675,15.15)
Top Overlay:
  circle w0.6: c-12.75,12.75 r0.3
  circle w0.25: c-15.15,13.45 r0.125
  lines w0.2: -13.75,-13.75 13.75,-13.75 13.75,13.75 -13.75,13.75 -13.75,-13.75
Mechanical 13:
  circle w0.1: c-13.1,13.1 r0.5
  lines w0.1: -14,-14 14,-14 14,14 -14,14 -14,-14
Mechanical 15:
  lines w0.1: -0.5,0 0.5,0 ; 0,-0.5 0,0.5 ; -16.35,-16.35 16.35,-16.35 16.35,16.35 -16.35,16.35 -16.35,-16.35
3D body: height 4.07, standoff 0, extent -14,-14 14,14

## S-208_L [mm] "208-Pin Shrink Quad Flat Pack 0.5 mm Pitch, IPC High Density"
height 4.1
pads (208):
  oval 1.85x0.25 smd: 1(-14.975,12.75) 2(-14.975,12.25) 3(-14.975,11.75) 4(-14.975,11.25) 5(-14.975,10.75) 6(-14.975,10.25) 7(-14.975,9.75) 8(-14.975,9.25) 9(-14.975,8.75) 10(-14.975,8.25) 11(-14.975,7.75) 12(-14.975,7.25) 13(-14.975,6.75) 14(-14.975,6.25) 15(-14.975,5.75) 16(-14.975,5.25) 17(-14.975,4.75) 18(-14.975,4.25) 19(-14.975,3.75) 20(-14.975,3.25) 21(-14.975,2.75) 22(-14.975,2.25) 23(-14.975,1.75) 24(-14.975,1.25) 25(-14.975,0.75) 26(-14.975,0.25) 27(-14.975,-0.25) 28(-14.975,-0.75) 29(-14.975,-1.25) 30(-14.975,-1.75) 31(-14.975,-2.25) 32(-14.975,-2.75) 33(-14.975,-3.25) 34(-14.975,-3.75) 35(-14.975,-4.25) 36(-14.975,-4.75) 37(-14.975,-5.25) 38(-14.975,-5.75) 39(-14.975,-6.25) 40(-14.975,-6.75) 41(-14.975,-7.25) 42(-14.975,-7.75) 43(-14.975,-8.25) 44(-14.975,-8.75) 45(-14.975,-9.25) 46(-14.975,-9.75) 47(-14.975,-10.25) 48(-14.975,-10.75) 49(-14.975,-11.25) 50(-14.975,-11.75) 51(-14.975,-12.25) 52(-14.975,-12.75) 105(14.975,-12.75) 106(14.975,-12.25) 107(14.975,-11.75) 108(14.975,-11.25) 109(14.975,-10.75) 110(14.975,-10.25) 111(14.975,-9.75) 112(14.975,-9.25) 113(14.975,-8.75) 114(14.975,-8.25) 115(14.975,-7.75) 116(14.975,-7.25) 117(14.975,-6.75) 118(14.975,-6.25) 119(14.975,-5.75) 120(14.975,-5.25) 121(14.975,-4.75) 122(14.975,-4.25) 123(14.975,-3.75) 124(14.975,-3.25) 125(14.975,-2.75) 126(14.975,-2.25) 127(14.975,-1.75) 128(14.975,-1.25) 129(14.975,-0.75) 130(14.975,-0.25) 131(14.975,0.25) 132(14.975,0.75) 133(14.975,1.25) 134(14.975,1.75) 135(14.975,2.25) 136(14.975,2.75) 137(14.975,3.25) 138(14.975,3.75) 139(14.975,4.25) 140(14.975,4.75) 141(14.975,5.25) 142(14.975,5.75) 143(14.975,6.25) 144(14.975,6.75) 145(14.975,7.25) 146(14.975,7.75) 147(14.975,8.25) 148(14.975,8.75) 149(14.975,9.25) 150(14.975,9.75) 151(14.975,10.25) 152(14.975,10.75) 153(14.975,11.25) 154(14.975,11.75) 155(14.975,12.25) 156(14.975,12.75)
  oval 0.25x1.85 smd: 53(-12.75,-14.975) 54(-12.25,-14.975) 55(-11.75,-14.975) 56(-11.25,-14.975) 57(-10.75,-14.975) 58(-10.25,-14.975) 59(-9.75,-14.975) 60(-9.25,-14.975) 61(-8.75,-14.975) 62(-8.25,-14.975) 63(-7.75,-14.975) 64(-7.25,-14.975) 65(-6.75,-14.975) 66(-6.25,-14.975) 67(-5.75,-14.975) 68(-5.25,-14.975) 69(-4.75,-14.975) 70(-4.25,-14.975) 71(-3.75,-14.975) 72(-3.25,-14.975) 73(-2.75,-14.975) 74(-2.25,-14.975) 75(-1.75,-14.975) 76(-1.25,-14.975) 77(-0.75,-14.975) 78(-0.25,-14.975) 79(0.25,-14.975) 80(0.75,-14.975) 81(1.25,-14.975) 82(1.75,-14.975) 83(2.25,-14.975) 84(2.75,-14.975) 85(3.25,-14.975) 86(3.75,-14.975) 87(4.25,-14.975) 88(4.75,-14.975) 89(5.25,-14.975) 90(5.75,-14.975) 91(6.25,-14.975) 92(6.75,-14.975) 93(7.25,-14.975) 94(7.75,-14.975) 95(8.25,-14.975) 96(8.75,-14.975) 97(9.25,-14.975) 98(9.75,-14.975) 99(10.25,-14.975) 100(10.75,-14.975) 101(11.25,-14.975) 102(11.75,-14.975) 103(12.25,-14.975) 104(12.75,-14.975) 157(12.75,14.975) 158(12.25,14.975) 159(11.75,14.975) 160(11.25,14.975) 161(10.75,14.975) 162(10.25,14.975) 163(9.75,14.975) 164(9.25,14.975) 165(8.75,14.975) 166(8.25,14.975) 167(7.75,14.975) 168(7.25,14.975) 169(6.75,14.975) 170(6.25,14.975) 171(5.75,14.975) 172(5.25,14.975) 173(4.75,14.975) 174(4.25,14.975) 175(3.75,14.975) 176(3.25,14.975) 177(2.75,14.975) 178(2.25,14.975) 179(1.75,14.975) 180(1.25,14.975) 181(0.75,14.975) 182(0.25,14.975) 183(-0.25,14.975) 184(-0.75,14.975) 185(-1.25,14.975) 186(-1.75,14.975) 187(-2.25,14.975) 188(-2.75,14.975) 189(-3.25,14.975) 190(-3.75,14.975) 191(-4.25,14.975) 192(-4.75,14.975) 193(-5.25,14.975) 194(-5.75,14.975) 195(-6.25,14.975) 196(-6.75,14.975) 197(-7.25,14.975) 198(-7.75,14.975) 199(-8.25,14.975) 200(-8.75,14.975) 201(-9.25,14.975) 202(-9.75,14.975) 203(-10.25,14.975) 204(-10.75,14.975) 205(-11.25,14.975) 206(-11.75,14.975) 207(-12.25,14.975) 208(-12.75,14.975)
Top Overlay:
  circle w0.6: c-12.65,12.65 r0.3
  circle w0.25: c-14.975,13.425 r0.125
  lines w0.2: -13.65,-13.65 13.65,-13.65 13.65,13.65 -13.65,13.65 -13.65,-13.65
Mechanical 13:
  circle w0.1: c-13.1,13.1 r0.5
  lines w0.1: -14,-14 14,-14 14,14 -14,14 -14,-14
Mechanical 15:
  lines w0.1: -0.5,0 0.5,0 ; 0,-0.5 0,0.5 ; -16,-16 16,-16 16,16 -16,16 -16,-16
3D body: height 4.1, standoff 0, extent -14,-14 14,14

## S-208_M [mm] "208-Pin Shrink Quad Flat Pack 0.5 mm Pitch, IPC Low Density"
height 4.1
pads (208):
  oval 2.4x0.3 smd: 1(-15.05,12.75) 2(-15.05,12.25) 3(-15.05,11.75) 4(-15.05,11.25) 5(-15.05,10.75) 6(-15.05,10.25) 7(-15.05,9.75) 8(-15.05,9.25) 9(-15.05,8.75) 10(-15.05,8.25) 11(-15.05,7.75) 12(-15.05,7.25) 13(-15.05,6.75) 14(-15.05,6.25) 15(-15.05,5.75) 16(-15.05,5.25) 17(-15.05,4.75) 18(-15.05,4.25) 19(-15.05,3.75) 20(-15.05,3.25) 21(-15.05,2.75) 22(-15.05,2.25) 23(-15.05,1.75) 24(-15.05,1.25) 25(-15.05,0.75) 26(-15.05,0.25) 27(-15.05,-0.25) 28(-15.05,-0.75) 29(-15.05,-1.25) 30(-15.05,-1.75) 31(-15.05,-2.25) 32(-15.05,-2.75) 33(-15.05,-3.25) 34(-15.05,-3.75) 35(-15.05,-4.25) 36(-15.05,-4.75) 37(-15.05,-5.25) 38(-15.05,-5.75) 39(-15.05,-6.25) 40(-15.05,-6.75) 41(-15.05,-7.25) 42(-15.05,-7.75) 43(-15.05,-8.25) 44(-15.05,-8.75) 45(-15.05,-9.25) 46(-15.05,-9.75) 47(-15.05,-10.25) 48(-15.05,-10.75) 49(-15.05,-11.25) 50(-15.05,-11.75) 51(-15.05,-12.25) 52(-15.05,-12.75) 105(15.05,-12.75) 106(15.05,-12.25) 107(15.05,-11.75) 108(15.05,-11.25) 109(15.05,-10.75) 110(15.05,-10.25) 111(15.05,-9.75) 112(15.05,-9.25) 113(15.05,-8.75) 114(15.05,-8.25) 115(15.05,-7.75) 116(15.05,-7.25) 117(15.05,-6.75) 118(15.05,-6.25) 119(15.05,-5.75) 120(15.05,-5.25) 121(15.05,-4.75) 122(15.05,-4.25) 123(15.05,-3.75) 124(15.05,-3.25) 125(15.05,-2.75) 126(15.05,-2.25) 127(15.05,-1.75) 128(15.05,-1.25) 129(15.05,-0.75) 130(15.05,-0.25) 131(15.05,0.25) 132(15.05,0.75) 133(15.05,1.25) 134(15.05,1.75) 135(15.05,2.25) 136(15.05,2.75) 137(15.05,3.25) 138(15.05,3.75) 139(15.05,4.25) 140(15.05,4.75) 141(15.05,5.25) 142(15.05,5.75) 143(15.05,6.25) 144(15.05,6.75) 145(15.05,7.25) 146(15.05,7.75) 147(15.05,8.25) 148(15.05,8.75) 149(15.05,9.25) 150(15.05,9.75) 151(15.05,10.25) 152(15.05,10.75) 153(15.05,11.25) 154(15.05,11.75) 155(15.05,12.25) 156(15.05,12.75)
  oval 0.3x2.4 smd: 53(-12.75,-15.05) 54(-12.25,-15.05) 55(-11.75,-15.05) 56(-11.25,-15.05) 57(-10.75,-15.05) 58(-10.25,-15.05) 59(-9.75,-15.05) 60(-9.25,-15.05) 61(-8.75,-15.05) 62(-8.25,-15.05) 63(-7.75,-15.05) 64(-7.25,-15.05) 65(-6.75,-15.05) 66(-6.25,-15.05) 67(-5.75,-15.05) 68(-5.25,-15.05) 69(-4.75,-15.05) 70(-4.25,-15.05) 71(-3.75,-15.05) 72(-3.25,-15.05) 73(-2.75,-15.05) 74(-2.25,-15.05) 75(-1.75,-15.05) 76(-1.25,-15.05) 77(-0.75,-15.05) 78(-0.25,-15.05) 79(0.25,-15.05) 80(0.75,-15.05) 81(1.25,-15.05) 82(1.75,-15.05) 83(2.25,-15.05) 84(2.75,-15.05) 85(3.25,-15.05) 86(3.75,-15.05) 87(4.25,-15.05) 88(4.75,-15.05) 89(5.25,-15.05) 90(5.75,-15.05) 91(6.25,-15.05) 92(6.75,-15.05) 93(7.25,-15.05) 94(7.75,-15.05) 95(8.25,-15.05) 96(8.75,-15.05) 97(9.25,-15.05) 98(9.75,-15.05) 99(10.25,-15.05) 100(10.75,-15.05) 101(11.25,-15.05) 102(11.75,-15.05) 103(12.25,-15.05) 104(12.75,-15.05) 157(12.75,15.05) 158(12.25,15.05) 159(11.75,15.05) 160(11.25,15.05) 161(10.75,15.05) 162(10.25,15.05) 163(9.75,15.05) 164(9.25,15.05) 165(8.75,15.05) 166(8.25,15.05) 167(7.75,15.05) 168(7.25,15.05) 169(6.75,15.05) 170(6.25,15.05) 171(5.75,15.05) 172(5.25,15.05) 173(4.75,15.05) 174(4.25,15.05) 175(3.75,15.05) 176(3.25,15.05) 177(2.75,15.05) 178(2.25,15.05) 179(1.75,15.05) 180(1.25,15.05) 181(0.75,15.05) 182(0.25,15.05) 183(-0.25,15.05) 184(-0.75,15.05) 185(-1.25,15.05) 186(-1.75,15.05) 187(-2.25,15.05) 188(-2.75,15.05) 189(-3.25,15.05) 190(-3.75,15.05) 191(-4.25,15.05) 192(-4.75,15.05) 193(-5.25,15.05) 194(-5.75,15.05) 195(-6.25,15.05) 196(-6.75,15.05) 197(-7.25,15.05) 198(-7.75,15.05) 199(-8.25,15.05) 200(-8.75,15.05) 201(-9.25,15.05) 202(-9.75,15.05) 203(-10.25,15.05) 204(-10.75,15.05) 205(-11.25,15.05) 206(-11.75,15.05) 207(-12.25,15.05) 208(-12.75,15.05)
Top Overlay:
  circle w0.6: c-12.45,12.45 r0.3
  circle w0.25: c-15.05,13.45 r0.125
  lines w0.2: -13.45,-13.45 13.45,-13.45 13.45,13.45 -13.45,13.45 -13.45,-13.45
Mechanical 13:
  circle w0.1: c-13.1,13.1 r0.5
  lines w0.1: -14,-14 14,-14 14,14 -14,14 -14,-14
Mechanical 15:
  lines w0.1: -0.5,0 0.5,0 ; 0,-0.5 0,0.5 ; -16.75,-16.75 16.75,-16.75 16.75,16.75 -16.75,16.75 -16.75,-16.75
3D body: height 4.1, standoff 0, extent -14,-14 14,14

## S-208_N [mm] "208-Pin Shrink Quad Flat Pack 0.5 mm Pitch, IPC Medium Density"
height 4.1
pads (208):
  oval 2.1x0.3 smd: 1(-15,12.75) 2(-15,12.25) 3(-15,11.75) 4(-15,11.25) 5(-15,10.75) 6(-15,10.25) 7(-15,9.75) 8(-15,9.25) 9(-15,8.75) 10(-15,8.25) 11(-15,7.75) 12(-15,7.25) 13(-15,6.75) 14(-15,6.25) 15(-15,5.75) 16(-15,5.25) 17(-15,4.75) 18(-15,4.25) 19(-15,3.75) 20(-15,3.25) 21(-15,2.75) 22(-15,2.25) 23(-15,1.75) 24(-15,1.25) 25(-15,0.75) 26(-15,0.25) 27(-15,-0.25) 28(-15,-0.75) 29(-15,-1.25) 30(-15,-1.75) 31(-15,-2.25) 32(-15,-2.75) 33(-15,-3.25) 34(-15,-3.75) 35(-15,-4.25) 36(-15,-4.75) 37(-15,-5.25) 38(-15,-5.75) 39(-15,-6.25) 40(-15,-6.75) 41(-15,-7.25) 42(-15,-7.75) 43(-15,-8.25) 44(-15,-8.75) 45(-15,-9.25) 46(-15,-9.75) 47(-15,-10.25) 48(-15,-10.75) 49(-15,-11.25) 50(-15,-11.75) 51(-15,-12.25) 52(-15,-12.75) 105(15,-12.75) 106(15,-12.25) 107(15,-11.75) 108(15,-11.25) 109(15,-10.75) 110(15,-10.25) 111(15,-9.75) 112(15,-9.25) 113(15,-8.75) 114(15,-8.25) 115(15,-7.75) 116(15,-7.25) 117(15,-6.75) 118(15,-6.25) 119(15,-5.75) 120(15,-5.25) 121(15,-4.75) 122(15,-4.25) 123(15,-3.75) 124(15,-3.25) 125(15,-2.75) 126(15,-2.25) 127(15,-1.75) 128(15,-1.25) 129(15,-0.75) 130(15,-0.25) 131(15,0.25) 132(15,0.75) 133(15,1.25) 134(15,1.75) 135(15,2.25) 136(15,2.75) 137(15,3.25) 138(15,3.75) 139(15,4.25) 140(15,4.75) 141(15,5.25) 142(15,5.75) 143(15,6.25) 144(15,6.75) 145(15,7.25) 146(15,7.75) 147(15,8.25) 148(15,8.75) 149(15,9.25) 150(15,9.75) 151(15,10.25) 152(15,10.75) 153(15,11.25) 154(15,11.75) 155(15,12.25) 156(15,12.75)
  oval 0.3x2.1 smd: 53(-12.75,-15) 54(-12.25,-15) 55(-11.75,-15) 56(-11.25,-15) 57(-10.75,-15) 58(-10.25,-15) 59(-9.75,-15) 60(-9.25,-15) 61(-8.75,-15) 62(-8.25,-15) 63(-7.75,-15) 64(-7.25,-15) 65(-6.75,-15) 66(-6.25,-15) 67(-5.75,-15) 68(-5.25,-15) 69(-4.75,-15) 70(-4.25,-15) 71(-3.75,-15) 72(-3.25,-15) 73(-2.75,-15) 74(-2.25,-15) 75(-1.75,-15) 76(-1.25,-15) 77(-0.75,-15) 78(-0.25,-15) 79(0.25,-15) 80(0.75,-15) 81(1.25,-15) 82(1.75,-15) 83(2.25,-15) 84(2.75,-15) 85(3.25,-15) 86(3.75,-15) 87(4.25,-15) 88(4.75,-15) 89(5.25,-15) 90(5.75,-15) 91(6.25,-15) 92(6.75,-15) 93(7.25,-15) 94(7.75,-15) 95(8.25,-15) 96(8.75,-15) 97(9.25,-15) 98(9.75,-15) 99(10.25,-15) 100(10.75,-15) 101(11.25,-15) 102(11.75,-15) 103(12.25,-15) 104(12.75,-15) 157(12.75,15) 158(12.25,15) 159(11.75,15) 160(11.25,15) 161(10.75,15) 162(10.25,15) 163(9.75,15) 164(9.25,15) 165(8.75,15) 166(8.25,15) 167(7.75,15) 168(7.25,15) 169(6.75,15) 170(6.25,15) 171(5.75,15) 172(5.25,15) 173(4.75,15) 174(4.25,15) 175(3.75,15) 176(3.25,15) 177(2.75,15) 178(2.25,15) 179(1.75,15) 180(1.25,15) 181(0.75,15) 182(0.25,15) 183(-0.25,15) 184(-0.75,15) 185(-1.25,15) 186(-1.75,15) 187(-2.25,15) 188(-2.75,15) 189(-3.25,15) 190(-3.75,15) 191(-4.25,15) 192(-4.75,15) 193(-5.25,15) 194(-5.75,15) 195(-6.25,15) 196(-6.75,15) 197(-7.25,15) 198(-7.75,15) 199(-8.25,15) 200(-8.75,15) 201(-9.25,15) 202(-9.75,15) 203(-10.25,15) 204(-10.75,15) 205(-11.25,15) 206(-11.75,15) 207(-12.25,15) 208(-12.75,15)
Top Overlay:
  circle w0.6: c-12.55,12.55 r0.3
  circle w0.25: c-15,13.45 r0.125
  lines w0.2: -13.55,-13.55 13.55,-13.55 13.55,13.55 -13.55,13.55 -13.55,-13.55
Mechanical 13:
  circle w0.1: c-13.1,13.1 r0.5
  lines w0.1: -14,-14 14,-14 14,14 -14,14 -14,-14
Mechanical 15:
  lines w0.1: -0.5,0 0.5,0 ; 0,-0.5 0,0.5 ; -16.3,-16.3 16.3,-16.3 16.3,16.3 -16.3,16.3 -16.3,-16.3
3D body: height 4.1, standoff 0, extent -14,-14 14,14

## S-304_L [mm] "304-Pin Plastic Shrink Quad Flat Pack 0.5 mm Pitch, IPC High Density"
height 4.5
pads (304):
  oval 1.55x0.25 smd: 1(-20.825,18.75) 2(-20.825,18.25) 3(-20.825,17.75) 4(-20.825,17.25) 5(-20.825,16.75) 6(-20.825,16.25) 7(-20.825,15.75) 8(-20.825,15.25) 9(-20.825,14.75) 10(-20.825,14.25) 11(-20.825,13.75) 12(-20.825,13.25) 13(-20.825,12.75) 14(-20.825,12.25) 15(-20.825,11.75) 16(-20.825,11.25) 17(-20.825,10.75) 18(-20.825,10.25) 19(-20.825,9.75) 20(-20.825,9.25) 21(-20.825,8.75) 22(-20.825,8.25) 23(-20.825,7.75) 24(-20.825,7.25) 25(-20.825,6.75) 26(-20.825,6.25) 27(-20.825,5.75) 28(-20.825,5.25) 29(-20.825,4.75) 30(-20.825,4.25) 31(-20.825,3.75) 32(-20.825,3.25) 33(-20.825,2.75) 34(-20.825,2.25) 35(-20.825,1.75) 36(-20.825,1.25) 37(-20.825,0.75) 38(-20.825,0.25) 39(-20.825,-0.25) 40(-20.825,-0.75) 41(-20.825,-1.25) 42(-20.825,-1.75) 43(-20.825,-2.25) 44(-20.825,-2.75) 45(-20.825,-3.25) 46(-20.825,-3.75) 47(-20.825,-4.25) 48(-20.825,-4.75) 49(-20.825,-5.25) 50(-20.825,-5.75) 51(-20.825,-6.25) 52(-20.825,-6.75) 53(-20.825,-7.25) 54(-20.825,-7.75) 55(-20.825,-8.25) 56(-20.825,-8.75) 57(-20.825,-9.25) 58(-20.825,-9.75) 59(-20.825,-10.25) 60(-20.825,-10.75) 61(-20.825,-11.25) 62(-20.825,-11.75) 63(-20.825,-12.25) 64(-20.825,-12.75) 65(-20.825,-13.25) 66(-20.825,-13.75) 67(-20.825,-14.25) 68(-20.825,-14.75) 69(-20.825,-15.25) 70(-20.825,-15.75) 71(-20.825,-16.25) 72(-20.825,-16.75) 73(-20.825,-17.25) 74(-20.825,-17.75) 75(-20.825,-18.25) 76(-20.825,-18.75) 153(20.825,-18.75) 154(20.825,-18.25) 155(20.825,-17.75) 156(20.825,-17.25) 157(20.825,-16.75) 158(20.825,-16.25) 159(20.825,-15.75) 160(20.825,-15.25) 161(20.825,-14.75) 162(20.825,-14.25) 163(20.825,-13.75) 164(20.825,-13.25) 165(20.825,-12.75) 166(20.825,-12.25) 167(20.825,-11.75) 168(20.825,-11.25) 169(20.825,-10.75) 170(20.825,-10.25) 171(20.825,-9.75) 172(20.825,-9.25) 173(20.825,-8.75) 174(20.825,-8.25) 175(20.825,-7.75) 176(20.825,-7.25) 177(20.825,-6.75) 178(20.825,-6.25) 179(20.825,-5.75) 180(20.825,-5.25) 181(20.825,-4.75) 182(20.825,-4.25) 183(20.825,-3.75) 184(20.825,-3.25) 185(20.825,-2.75) 186(20.825,-2.25) 187(20.825,-1.75) 188(20.825,-1.25) 189(20.825,-0.75) 190(20.825,-0.25) 191(20.825,0.25) 192(20.825,0.75) 193(20.825,1.25) 194(20.825,1.75) 195(20.825,2.25) 196(20.825,2.75) 197(20.825,3.25) 198(20.825,3.75) 199(20.825,4.25) 200(20.825,4.75) 201(20.825,5.25) 202(20.825,5.75) 203(20.825,6.25) 204(20.825,6.75) 205(20.825,7.25) 206(20.825,7.75) 207(20.825,8.25) 208(20.825,8.75) 209(20.825,9.25) 210(20.825,9.75) 211(20.825,10.25) 212(20.825,10.75) 213(20.825,11.25) 214(20.825,11.75) 215(20.825,12.25) 216(20.825,12.75) 217(20.825,13.25) 218(20.825,13.75) 219(20.825,14.25) 220(20.825,14.75) 221(20.825,15.25) 222(20.825,15.75) 223(20.825,16.25) 224(20.825,16.75) 225(20.825,17.25) 226(20.825,17.75) 227(20.825,18.25) 228(20.825,18.75)
  oval 0.25x1.55 smd: 77(-18.75,-20.825) 78(-18.25,-20.825) 79(-17.75,-20.825) 80(-17.25,-20.825) 81(-16.75,-20.825) 82(-16.25,-20.825) 83(-15.75,-20.825) 84(-15.25,-20.825) 85(-14.75,-20.825) 86(-14.25,-20.825) 87(-13.75,-20.825) 88(-13.25,-20.825) 89(-12.75,-20.825) 90(-12.25,-20.825) 91(-11.75,-20.825) 92(-11.25,-20.825) 93(-10.75,-20.825) 94(-10.25,-20.825) 95(-9.75,-20.825) 96(-9.25,-20.825) 97(-8.75,-20.825) 98(-8.25,-20.825) 99(-7.75,-20.825) 100(-7.25,-20.825) 101(-6.75,-20.825) 102(-6.25,-20.825) 103(-5.75,-20.825) 104(-5.25,-20.825) 105(-4.75,-20.825) 106(-4.25,-20.825) 107(-3.75,-20.825) 108(-3.25,-20.825) 109(-2.75,-20.825) 110(-2.25,-20.825) 111(-1.75,-20.825) 112(-1.25,-20.825) 113(-0.75,-20.825) 114(-0.25,-20.825) 115(0.25,-20.825) 116(0.75,-20.825) 117(1.25,-20.825) 118(1.75,-20.825) 119(2.25,-20.825) 120(2.75,-20.825) 121(3.25,-20.825) 122(3.75,-20.825) 123(4.25,-20.825) 124(4.75,-20.825) 125(5.25,-20.825) 126(5.75,-20.825) 127(6.25,-20.825) 128(6.75,-20.825) 129(7.25,-20.825) 130(7.75,-20.825) 131(8.25,-20.825) 132(8.75,-20.825) 133(9.25,-20.825) 134(9.75,-20.825) 135(10.25,-20.825) 136(10.75,-20.825) 137(11.25,-20.825) 138(11.75,-20.825) 139(12.25,-20.825) 140(12.75,-20.825) 141(13.25,-20.825) 142(13.75,-20.825) 143(14.25,-20.825) 144(14.75,-20.825) 145(15.25,-20.825) 146(15.75,-20.825) 147(16.25,-20.825) 148(16.75,-20.825) 149(17.25,-20.825) 150(17.75,-20.825) 151(18.25,-20.825) 152(18.75,-20.825) 229(18.75,20.825) 230(18.25,20.825) 231(17.75,20.825) 232(17.25,20.825) 233(16.75,20.825) 234(16.25,20.825) 235(15.75,20.825) 236(15.25,20.825) 237(14.75,20.825) 238(14.25,20.825) 239(13.75,20.825) 240(13.25,20.825) 241(12.75,20.825) 242(12.25,20.825) 243(11.75,20.825) 244(11.25,20.825) 245(10.75,20.825) 246(10.25,20.825) 247(9.75,20.825) 248(9.25,20.825) 249(8.75,20.825) 250(8.25,20.825) 251(7.75,20.825) 252(7.25,20.825) 253(6.75,20.825) 254(6.25,20.825) 255(5.75,20.825) 256(5.25,20.825) 257(4.75,20.825) 258(4.25,20.825) 259(3.75,20.825) 260(3.25,20.825) 261(2.75,20.825) 262(2.25,20.825) 263(1.75,20.825) 264(1.25,20.825) 265(0.75,20.825) 266(0.25,20.825) 267(-0.25,20.825) 268(-0.75,20.825) 269(-1.25,20.825) 270(-1.75,20.825) 271(-2.25,20.825) 272(-2.75,20.825) 273(-3.25,20.825) 274(-3.75,20.825) 275(-4.25,20.825) 276(-4.75,20.825) 277(-5.25,20.825) 278(-5.75,20.825) 279(-6.25,20.825) 280(-6.75,20.825) 281(-7.25,20.825) 282(-7.75,20.825) 283(-8.25,20.825) 284(-8.75,20.825) 285(-9.25,20.825) 286(-9.75,20.825) 287(-10.25,20.825) 288(-10.75,20.825) 289(-11.25,20.825) 290(-11.75,20.825) 291(-12.25,20.825) 292(-12.75,20.825) 293(-13.25,20.825) 294(-13.75,20.825) 295(-14.25,20.825) 296(-14.75,20.825) 297(-15.25,20.825) 298(-15.75,20.825) 299(-16.25,20.825) 300(-16.75,20.825) 301(-17.25,20.825) 302(-17.75,20.825) 303(-18.25,20.825) 304(-18.75,20.825)
Top Overlay:
  circle w0.6: c-18.65,18.65 r0.3
  circle w0.25: c-20.825,19.425 r0.125
  lines w0.2: -19.65,-19.65 19.65,-19.65 19.65,19.65 -19.65,19.65 -19.65,-19.65
Mechanical 13:
  circle w0.1: c-19.1,19.1 r0.5
  lines w0.1: -20,-20 20,-20 20,20 -20,20 -20,-20
Mechanical 15:
  lines w0.1: -0.5,0 0.5,0 ; 0,-0.5 0,0.5 ; -21.7,-21.7 21.7,-21.7 21.7,21.7 -21.7,21.7 -21.7,-21.7
3D body: height 4.5, standoff 0, extent -20,-20 20,20